# EAGLE library part IRS2113M (library ic-power)
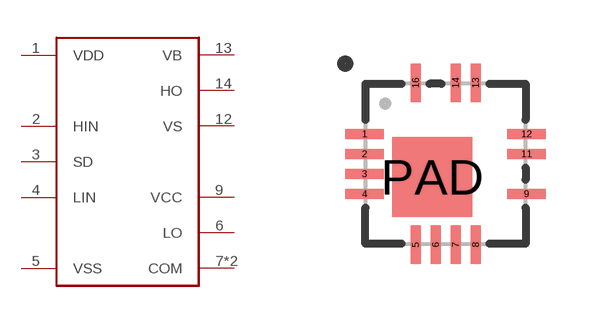
[diagram p10: symbol with the pads of MLPQ--4X4-14L; footprint MLPQ--4X4-14L]

Designator prefix IC

## IRS2113M  [MLPQ--4X4-14L]
1  VDD  pas
2  HIN  in
3  SD  in
4  LIN  in
5  VSS  pas
6  LO  pas
7  COM  pas
9  VCC  pas
12  VS  pas
13  VB  pas
14  HO  pas
PAD  COM  pas

## Footprint MLPQ--4X4-14L (pad centres in mm)
smd 0.95 x 0.25: 1 -2.025,0.75; 2 -2.025,0.25; 3 -2.025,-0.25; 4 -2.025,-0.75; 9 2.025,-0.75; 11 2.025,0.25; 12 2.025,0.75
smd 0.25 x 0.95: 5 -0.75,-2.025; 6 -0.25,-2.025; 7 0.25,-2.025; 8 0.75,-2.025; 13 0.75,2.025; 14 0.25,2.025; 16 -0.75,2.025
smd 2 x 2: PAD -0.33,-0.33